# EAGLE library part LM4880 (library old-4ms-main-parts)
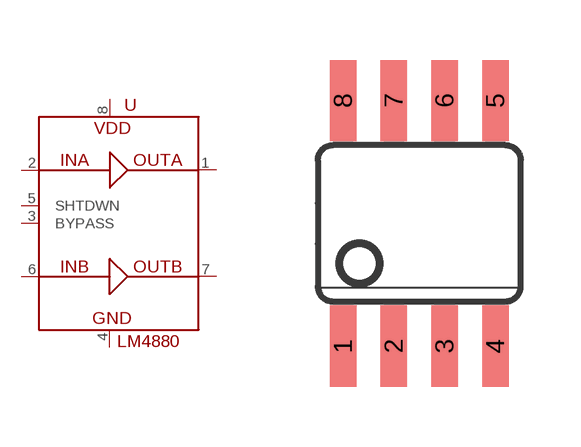
[diagram p15: symbol with the pads of SO08; footprint SO08]

Designator prefix -

## LM4880MM  [SO08]
1  OUTA
2  VINA
3  BYPASS
4  GND  pwr
5  SHTDWN
6  VINB
7  OUTB
8  VDD  pwr

## Footprint SO08 (pad centres in mm)
SO08
smd 0.66 x 2.032: 1 -1.905,-3.073; 2 -0.635,-3.073; 3 0.635,-3.073; 4 1.905,-3.073; 5 1.905,3.073; 6 0.635,3.073; 7 -0.635,3.073; 8 -1.905,3.073